# Altium schematic symbol library CAP,Cer,1nF,50VDC,X7R,Radial.Schlib: 1 symbol
Pins are listed as number, name and electrical type; pins without a type are passive.

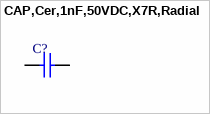
[diagram p0: symbol CAP,Cer,1nF,50VDC,X7R,Radial]

## CAP,Cer,1nF,50VDC,X7R,Radial
designator C?
pins: 1, 2